# Altium footprint library Driver.PcbLib: 25 footprints (part 1 of 2)
Each footprint in its own frame and in the unit in brackets; x right, y up, seen from the top. Pads: shape width x height; smd on the part's side, far side on the other; paste and mask are expansions set on the pad; w line width, h text height; cw(c..) or ccw(c..) is an arc to the next point about the centre after c.
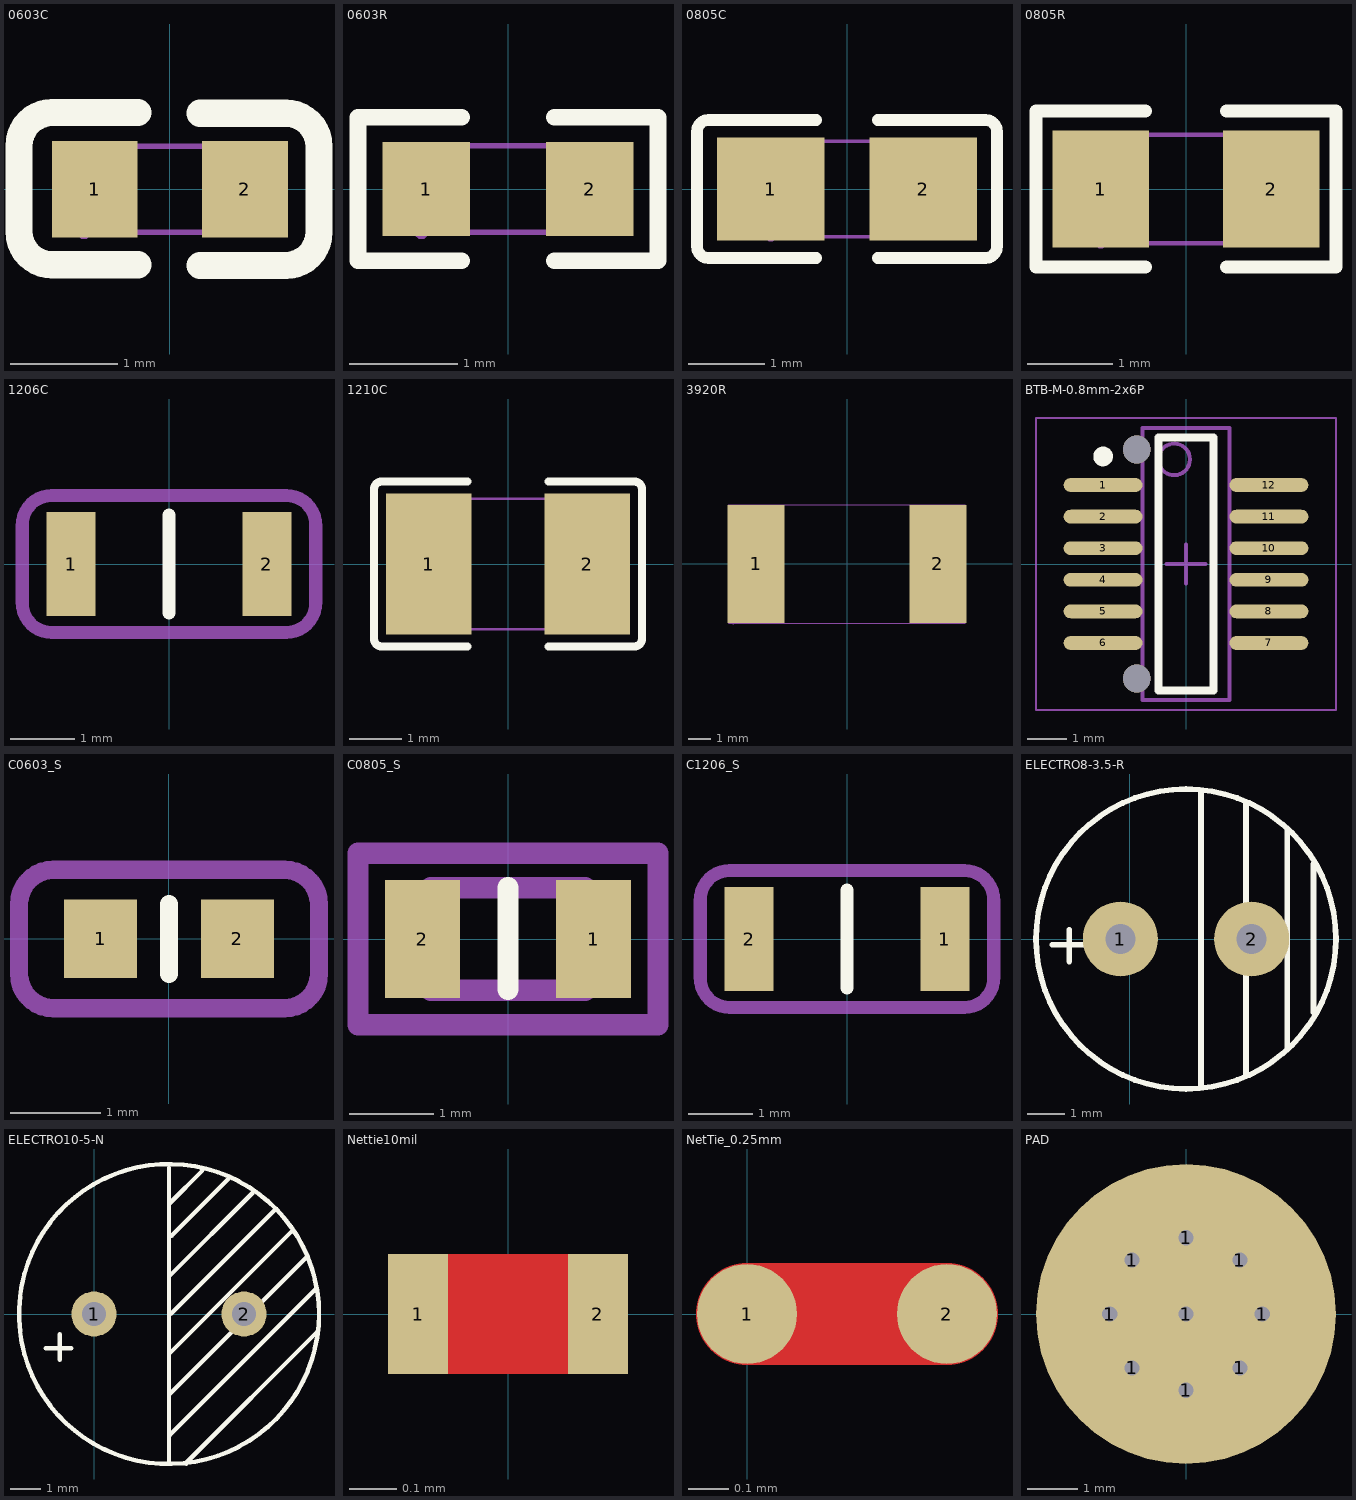
[diagram p0: the footprints below, top view; thin cyan lines are the x and y axes]

## 0603C [mm]
pads (2):
  rect 0.8x0.9 smd: 1(-0.7,0) 2(0.7,0)
Top Overlay:
  lines w0.254: -0.296,-0.704 -1.096,-0.704 cw(c-1.096,-0.394) -1.406,-0.394 -1.405,0.406 cw(c-1.096,0.406) -1.096,0.715 -0.296,0.715 ; 0.28,-0.71 1.08,-0.71 ccw(c1.08,-0.4) 1.39,-0.4 1.39,0.4 ccw(c1.08,0.4) 1.08,0.71 0.28,0.71
Mechanical 15:
  region: -0.8,-0.4 -0.8,0.4 -0.5,0.4 -0.5,-0.4
  region: 0.8,-0.4 0.8,0.4 0.5,0.4 0.5,-0.4
  region: -0.74,-0.4 -0.74,-0.375 -0.775,-0.34 -0.825,-0.34 -0.86,-0.375 -0.86,-0.4 -0.86,-0.425 -0.825,-0.46 -0.775,-0.46 -0.74,-0.425 -0.74,-0.4
  lines w0.051: -0.8,-0.4 -0.8,0.4 0.8,0.4 0.8,-0.4 -0.8,-0.4
3D body "cap_0603_lowprofile.step": height 0.6, standoff 0, extent -0.8,-0.381 0.8,0.419

## 0603R [mil]
pads (2):
  rect 31.75x34.02 smd paste-3937.01 mask+2: 1(-29.66,0) 2(29.66,0)
Top Overlay:
  lines w6: -16.78,-26.01 -54.53,-26.01 -54.53,26.01 -16.78,26.01 ; 16.78,-26.01 54.53,-26.01 54.53,26.01 16.78,26.01
Top Paste:
  region: 47.05,17.72 15.55,17.72 13.58,15.75 13.58,6.77 28.15,6.77 28.15,-6.22 13.58,-6.22 13.58,-15.75 15.55,-17.72 47.05,-17.72 49.02,-15.75 49.02,15.75
  region: -13.98,15.75 -13.98,6.77 -28.94,6.77 -28.94,-6.22 -13.98,-6.22 -13.98,-15.75 -15.94,-17.72 -47.05,-17.72 -49.02,-15.75 -49.02,15.75 -47.05,17.72 -15.94,17.72
Mechanical 15:
  region: -31.5,-15.75 -31.5,15.75 -19.68,15.75 -19.68,-15.75
  region: 31.5,-15.75 31.5,15.75 19.68,15.75 19.68,-15.75
  region: -29.14,-15.75 -29.14,-14.77 -30.52,-13.39 -32.48,-13.39 -33.86,-14.77 -33.86,-15.75 -33.86,-16.73 -32.48,-18.11 -30.52,-18.11 -29.14,-16.73 -29.14,-15.75
  lines w2: -31.5,-15.75 -31.5,15.75 31.5,15.75 31.5,-15.75 -31.5,-15.75
3D body "RESC1608(0603).STEP": height 14.96, standoff 0, extent -31.5,-15.74 31.5,15.75

## 0805C [mm]
pads (2):
  rect 1.41x1.35 smd paste-100 mask+0.051: 1(-1,0) 2(1,0)
Top Overlay:
  lines w0.152: -0.401,-0.904 -1.811,-0.904 cw(c-1.811,-0.751) -1.964,-0.751 -1.964,0.751 cw(c-1.811,0.751) -1.811,0.904 -0.401,0.904 ; 0.401,-0.904 1.811,-0.904 ccw(c1.811,-0.751) 1.964,-0.751 1.964,0.751 ccw(c1.811,0.751) 1.811,0.904 0.401,0.904
Top Paste:
  region: 0.475,-0.62 0.475,-0.2 0.92,-0.2 0.92,0.25 0.48,0.25 0.475,0.66 0.525,0.71 1.675,0.71 1.725,0.66 1.725,-0.62 1.675,-0.67 0.525,-0.67
  region: -1.675,-0.62 -1.675,0.66 -1.625,0.71 -0.475,0.71 -0.425,0.66 -0.42,0.25 -0.87,0.25 -0.87,-0.2 -0.43,-0.2 -0.425,-0.62 -0.475,-0.67 -1.625,-0.67
Mechanical 15:
  region: -0.94,-0.625 -0.94,-0.6 -0.975,-0.565 -1.025,-0.565 -1.06,-0.6 -1.06,-0.625 -1.06,-0.65 -1.025,-0.685 -0.975,-0.685 -0.94,-0.65 -0.94,-0.625
  region: 1,0.625 1,-0.625 0.5,-0.625 0.5,0.625
  region: -1,-0.625 -1,0.625 -0.5,0.625 -0.5,-0.625
  lines w0.051: -1,-0.625 1,-0.625 1,0.625 -1,0.625 -1,-0.625
3D body "CAPC2012(0805).STEP": height 0.95, standoff 0, extent -1,-0.6 1,0.6

## 0805R [mm]
pads (2):
  rect 1.133x1.377 smd paste-100 mask+0.051: 1(-1,0) 2(1,0)
Top Overlay:
  lines w0.152: -0.476,-0.917 -1.761,-0.917 -1.761,0.917 -0.476,0.917 ; 0.476,-0.917 1.761,-0.917 1.761,0.917 0.476,0.917
Top Paste:
  region: 0.45,-0.64 0.45,-0.22 0.895,-0.22 0.895,0.23 0.455,0.23 0.45,0.64 0.5,0.69 1.65,0.69 1.7,0.64 1.7,-0.64 1.65,-0.69 0.5,-0.69
  region: -1.7,-0.64 -1.7,0.64 -1.65,0.69 -0.5,0.69 -0.45,0.64 -0.445,0.23 -0.895,0.23 -0.895,-0.22 -0.455,-0.22 -0.45,-0.64 -0.5,-0.69 -1.65,-0.69
Mechanical 15:
  region: -0.94,-0.638 -0.94,-0.613 -0.975,-0.578 -1.025,-0.578 -1.06,-0.613 -1.06,-0.638 -1.06,-0.662 -1.025,-0.698 -0.975,-0.698 -0.94,-0.662 -0.94,-0.638
  region: 1,-0.637 1,0.637 0.6,0.637 0.6,-0.637
  region: -1,-0.637 -1,0.637 -0.6,0.637 -0.6,-0.637
  lines w0.051: -1,-0.637 1,-0.637 1,0.637 -1,0.637 -1,-0.637
3D body "RESC2012(0805).STEP": height 0.5, standoff 0, extent -1,-0.6 1,0.6

## 1206C [mil]
pads (2):
  rect 30x64 smd paste+0 mask+4: 1(-60,0) 2(60,0)
Top Overlay:
  lines w8: 0,-30 0,30
Mechanical 15:
  lines w8: -90,-24 ccw(c-72,-24) -72,-42 72,-42 ccw(c72,-24) 90,-24 90,24 ccw(c72,24) 72,42 -72,42 ccw(c-72,24) -90,24 -90,-24
3D body "C1206.STEP": height 51.19, standoff 0.01, extent -62.99,-31.5 62.99,31.5

## 1210C [mm]
pads (2):
  rect 1.635x2.7 smd paste-100 mask+0.051: 1(-1.517,0) 2(1.517,0)
Top Overlay:
  lines w0.152: -0.776,-1.579 -2.411,-1.579 cw(c-2.411,-1.426) -2.564,-1.426 -2.564,1.426 cw(c-2.411,1.426) -2.411,1.579 -0.776,1.579 ; 0.776,-1.579 2.411,-1.579 ccw(c2.411,-1.426) 2.564,-1.426 2.564,1.426 ccw(c2.411,1.426) 2.411,1.579 0.776,1.579
Top Paste:
  region: 0.7,-1.25 0.7,-0.559 0.8,-0.459 1.156,-0.459 1.256,-0.359 1.256,0.359 1.156,0.459 0.8,0.459 0.7,0.559 0.7,1.25 0.8,1.35 2.235,1.35 2.335,1.25 2.335,-1.25 2.235,-1.35 0.8,-1.35
  region: -0.7,-1.25 -0.7,-0.559 -0.8,-0.459 -1.156,-0.459 -1.256,-0.359 -1.256,0.359 -1.156,0.459 -0.8,0.459 -0.7,0.559 -0.7,1.25 -0.8,1.35 -2.235,1.35 -2.335,1.25 -2.335,-1.25 -2.235,-1.35 -0.8,-1.35
Mechanical 15:
  region: -1.54,-1.25 -1.54,-1.225 -1.575,-1.19 -1.625,-1.19 -1.66,-1.225 -1.66,-1.25 -1.66,-1.275 -1.625,-1.31 -1.575,-1.31 -1.54,-1.275 -1.54,-1.25
  region: -1.6,-1.25 -1.6,1.25 -1,1.25 -1,-1.25
  region: 1.6,-1.25 1.6,1.25 1,1.25 1,-1.25
  lines w0.051: -1.6,-1.25 -1.6,1.25 1.6,1.25 1.6,-1.25 -1.6,-1.25
3D body "C 1210.STEP": height 1.54, standoff 0.01, extent -1.6,-1.285 1.6,1.285

## 3920R [mm]
pads (2):
  rect 2.5x5.2 smd paste-2.54: 1(-4,0) 2(4,0)
Top Paste:
  rectangle: -3.664,-2.702 -2.648,-1.686
  rectangle: -3.664,-1.239 -2.648,-0.223
  rectangle: -3.664,0.223 -2.648,1.239
  rectangle: -3.664,1.686 -2.648,2.702
  rectangle: -5.352,-1.239 -4.336,-0.223
  rectangle: -5.352,0.223 -4.336,1.239
  rectangle: -5.352,-2.702 -4.336,-1.686
  rectangle: -5.352,1.686 -4.336,2.702
  rectangle: 2.648,1.686 3.664,2.702
  rectangle: 4.336,1.686 5.352,2.702
  rectangle: 2.648,0.223 3.664,1.239
  rectangle: 4.336,0.223 5.352,1.239
  rectangle: 2.648,-1.239 3.664,-0.223
  rectangle: 4.336,-1.239 5.352,-0.223
  rectangle: 2.648,-2.702 3.664,-1.686
  rectangle: 4.336,-2.702 5.352,-1.686
Mechanical 15:
  region: -5.207,2.6 -2.794,2.6 -2.794,-2.6 -5.207,-2.6
  region: -5,-2.66 -4.975,-2.66 -4.94,-2.625 -4.94,-2.575 -4.975,-2.54 -5,-2.54 -5.025,-2.54 -5.06,-2.575 -5.06,-2.625 -5.025,-2.66 -5,-2.66
  region: 5.207,-2.6 2.794,-2.6 2.794,2.6 5.207,2.6
  lines w0.051: -5.207,-2.6 5.207,-2.6 5.207,2.6 -5.207,2.6 -5.207,-2.6
3D body "R3920.STEP": height 0.93, standoff -0.09, extent -4.964,-2.55 4.964,2.55

## BTB-M-0.8mm-2x6P [mm] "0.8间距2x6P公座，SMD"
height 2
pads (12):
  oval 2x0.35 smd: 1(-2.1,2) 2(-2.1,1.2) 3(-2.1,0.4) 4(-2.1,-0.4) 5(-2.1,-1.2) 6(-2.1,-2) 7(2.1,-2) 8(2.1,-1.2) 9(2.1,-0.4) 10(2.1,0.4) 11(2.1,1.2) 12(2.1,2)
via -1.25,-2.9 diameter 0.7 hole 0.7
via -1.25,2.9 diameter 0.7 hole 0.7
Top Overlay:
  circle w0.25: c-2.1,2.725 r0.125
  lines w0.2: -0.7,-3.2 -0.7,3.2 0.7,3.2 0.7,-3.2 -0.7,-3.2
Mechanical 13:
  circle w0.1: c-0.3,2.65 r0.4
  lines w0.1: -1.1,-3.45 -1.1,3.45 1.1,3.45 1.1,-3.45 -1.1,-3.45
Mechanical 15:
  lines w0.05: -3.8,-3.7 -3.8,3.7 3.8,3.7 3.8,-3.7 -3.8,-3.7
  lines w0.1: -0.5,0 0.5,0 ; 0,-0.5 0,0.5
3D body "SGDBF-08-012P-H40.STEP": height 4, standoff -0.55, extent -2.599,-3.344 2.601,3.356

## C0603_S [mil]
pads (2):
  rect 31.75x34.02 smd paste+0 mask+4: 1(-29.65,0) 2(29.66,0)
Top Overlay:
  lines w8: 0,-15 0,15
Mechanical 15:
  lines w8: -65,-15 ccw(c-50,-15) -50,-30 50,-30 ccw(c50,-15) 65,-15 65,15 ccw(c50,15) 50,30 -50,30 ccw(c-50,15) -65,15 -65,-15
3D body "cap_0603_lowprofile.step": height 23.62, standoff 0, extent -31.5,-15 31.5,16.5

## C0805_S [mil]
pads (2):
  rect 35x55.1 smd paste+0 mask+4: 1(40,0) 2(-40,0)
Top Overlay:
  lines w10: 0,-23.5 0,24
Mechanical 6:
  lines w10: -36,-24 36,-24 ; -36,24 36,24
Mechanical 15:
  lines w10: -70,-40 70,-40 70,40 -70,40 -70,-40
3D body "CAPC2012(0805).STEP": height 37.4, standoff 0, extent -39.36,-23.62 39.37,23.62

## C1206_S [mil]
pads (2):
  rect 30x64 smd paste+0 mask+4: 1(60,0) 2(-60,0)
Top Overlay:
  lines w8: 0.01,-30 0.01,30
Mechanical 15:
  lines w8: -90,-24 ccw(c-72,-24) -72,-42 72,-42 ccw(c72,-24) 90,-24 90,24 ccw(c72,24) 72,42 -72,42 ccw(c-72,24) -90,24 -90,-24
3D body "C 1206.STEP": height 47.64, standoff -0.39, extent -62.99,-31.89 62.99,31.89

## ELECTRO8-3.5-R [mm]
pads (2):
  round 2 hole 0.8: 1(-0.25,0) 2(3.25,0)
Top Overlay:
  circle w0.15: c1.5,0 r4
  lines w0.15: -2.068,-0.15 -1.218,-0.15 ; -1.618,-0.6 -1.618,0.25 ; 1.9,-3.9 1.9,3.9 ; 3.1,-3.6 3.1,3.65 ; 4.2,-2.95 4.2,2.95 ; 4.9,-1.95 4.9,2
3D body "User_Library-CAP_8X11_5.step": height 11.54, standoff -18.95, extent -2.5,-4 5.5,4

## ELECTRO10-5-N [mm]
pads (2):
  round 1.5 hole 0.8: 1(0,0) 2(5,0)
Top Overlay:
  circle w0.15: c2.5,0 r5
  lines w0.15: -1.612,-1.143 -0.762,-1.143 ; -1.143,-1.524 -1.143,-0.674 ; 2.5,-4.918 2.5,0 ; 2.5,-4.034 2.525,-4.034 7.389,0.831 ; 2.5,-2.703 2.5,-2.687 7.087,1.9 ; 2.5,-1.491 2.5,-1.335 6.584,2.748 ; 2.5,1.194 2.5,1.248 5.291,4.039 ; 2.5,2.606 2.586,2.606 4.483,4.503 ; 2.5,3.696 2.525,3.696 3.614,4.785 ; 2.5,4.883 2.5,0 ; 3.071,-4.983 3.071,-4.963 7.45,-0.584 ; 6.017,3.454 2.563,0 2.5,0
3D body "插件,D10xL12.5mm.STEP": height 16.02, standoff -3.39, extent -2.46,-5 7.55,5.001

## Nettie10mil [mil]
pads (2):
  rect 5x10 smd paste-6 mask-6: 1(-7.5,0) 2(7.5,0)
Top Layer:
  region: -7.5,5 7.5,5 7.5,-5 -7.5,-5

## NetTie_0.25mm [mm] "Net tie, 0.25mm"
pads (2):
  round 0.25 smd paste-2: 1(0,0)
  round 0.25 smd paste-2 mask+0.102: 2(0.5,0)
Top Layer:
  lines w0.254: 0,0 0.5,0

## PAD [mil] "Connector; Header; 3x2 Position"
pads (9):
  round 22 hole 12: 1(-60,0) 1(-42.43,-42.43) 1(-42.43,42.43) 1(0,-60) 1(0,60) 1(42.43,-42.43) 1(42.43,42.43) 1(60,0)
  round 236.22 hole 12: 1(0,0)